# Altium schematic symbol library TPS92602BQPWPRQ1.SchLib: 2 symbols
Pins are listed as number, name and electrical type; pins without a type are passive.

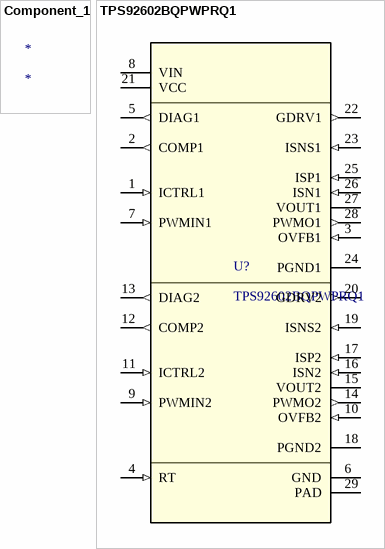
[diagram p0: symbols Component_1 to TPS92602BQPWPRQ1]

## Component_1
designator *

## TPS92602BQPWPRQ1
designator U?
No Description Available; Mfr_Name: Texas Instruments; Type: DEV; RefDes: RefDes; Copyright: Copyright (C) 2022 Ultra Librarian. All rights reserved.; Manufacturer_Part_Number: TPS92602BQPWPRQ1
footprint PWP0028C_N
pins: 1 ICTRL1 (in), 2 COMP1 (out), 3 OVFB1 (in), 4 RT (in), 5 DIAG1 (out), 6 GND (power), 7 PWMIN1 (in), 8 VIN (power), 9 PWMIN2 (in), 10 OVFB2 (in), 11 ICTRL2 (in), 12 COMP2 (out), 13 DIAG2 (out), 14 PWMO2 (out), 15 VOUT2 (power), 16 ISN2 (in), 17 ISP2 (in), 18 PGND2 (power), 19 ISNS2 (in), 20 GDRV2 (out), 21 VCC (power), 22 GDRV1 (out), 23 ISNS1 (in), 24 PGND1 (power), 25 ISP1 (in), 26 ISN1 (in), 27 VOUT1 (power), 28 PWMO1 (out), 29 PAD (power)